# Altium footprint library Gelnar.PcbLib: 295 footprints (part 15 of 19)
Each footprint in its own frame and in the unit in brackets; x right, y up, seen from the top. Pads: shape width x height; smd on the part's side, far side on the other; paste and mask are expansions set on the pad; w line width, h text height; cw(c..) or ccw(c..) is an arc to the next point about the centre after c.
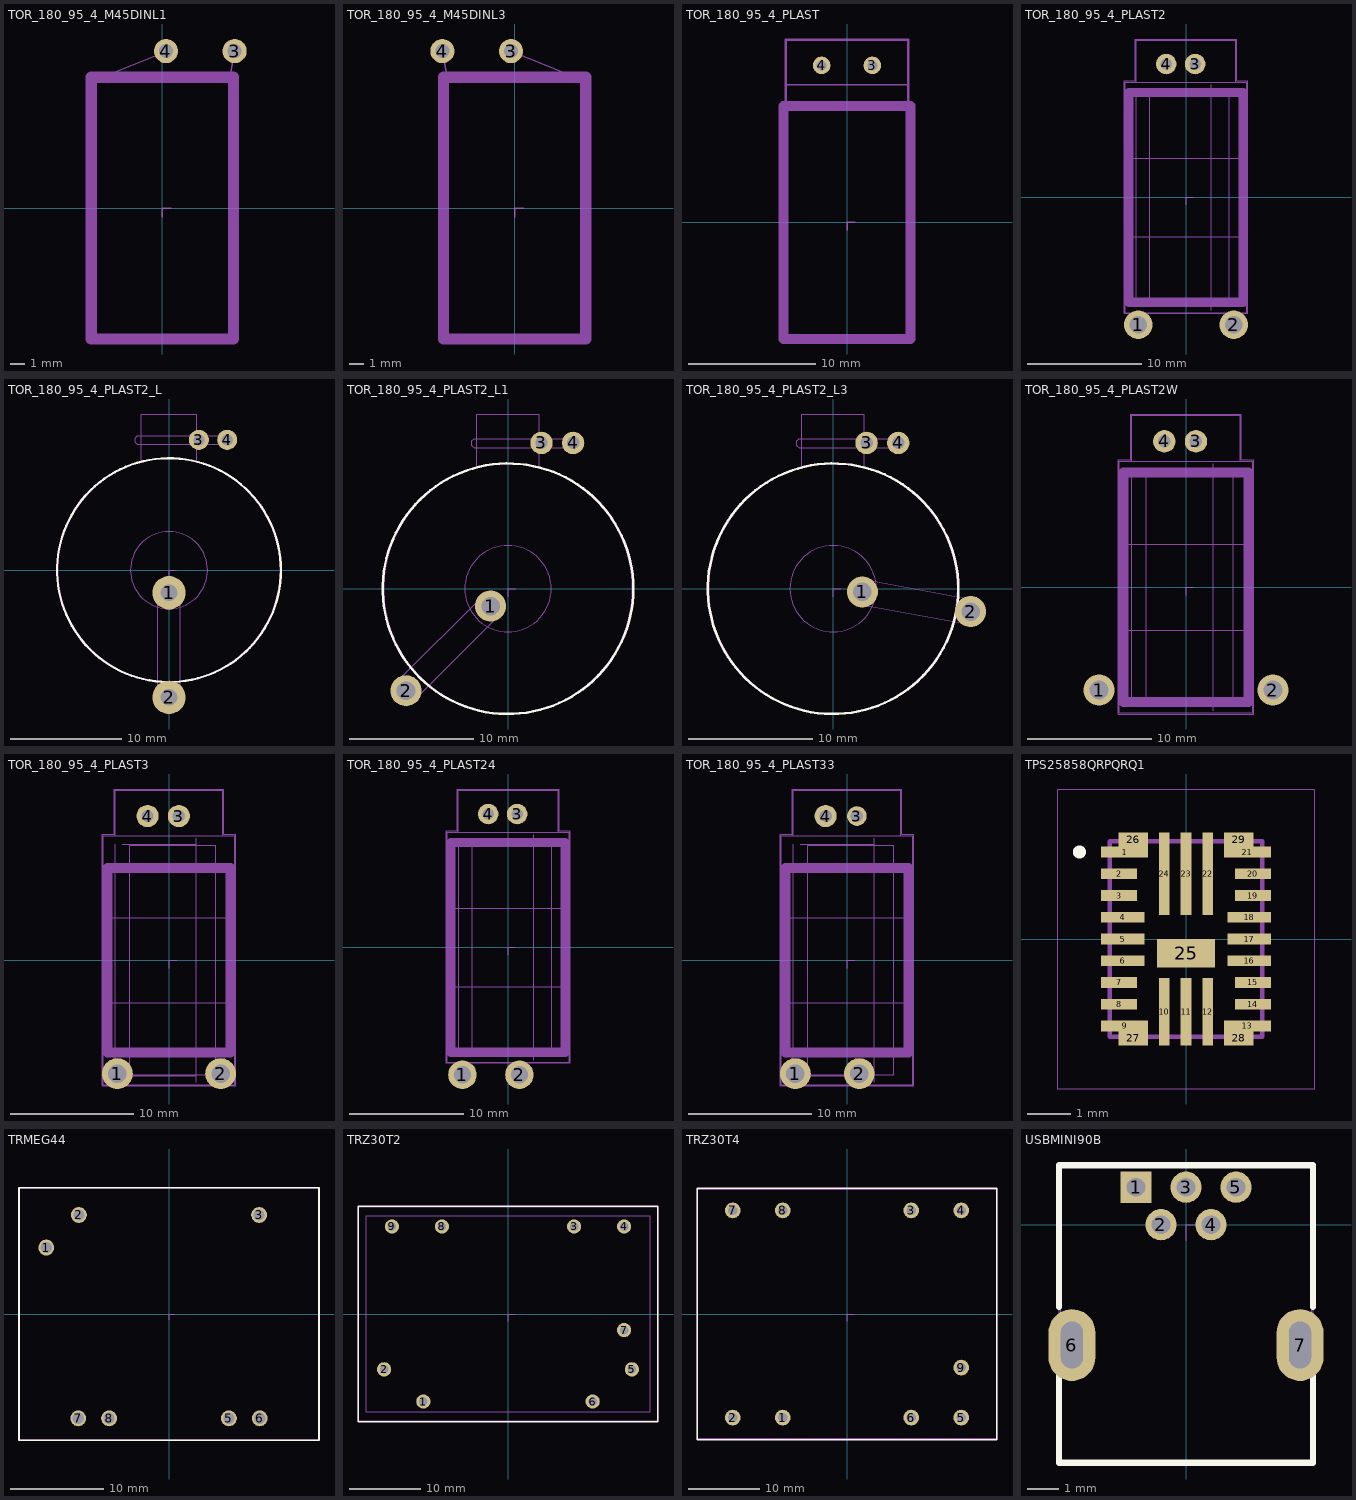
[diagram p14: the footprints below, top view; thin cyan lines are the x and y axes]

## TOR_180_95_4_M45DINL1 [mm]
pads (2):
  round 1.7 hole 1 mask+0.1: 3(5.08,11.049) 4(0.254,11.049)
Mechanical 15:
  circle w0.1: c0.254,11.049 r0.5
  circle w0.1: c5.08,11.049 r0.5
  lines w0.1: -4.699,9.017 -0.127,10.858 ; 4.699,9.017 5.016,10.668 ; -4.8,-9 4.8,-9 4.8,9 -4.8,9 -4.8,-9
Mechanical 16:
  circle w0.1: c0.254,11.049 r0.5
  circle w0.1: c5.08,11.049 r0.5
  lines w0.8: -5,-9.2 -5,9.2 5,9.2 5,-9.2 -5,-9.2
Mechanical 19:
  lines w0.1: 0,-0.635 0,0 0.635,0
Mechanical 20:
  lines w0.1: -4.889,-9.08 4.889,-9.08 4.889,9.08 -4.889,9.08 -4.889,-9.08

## TOR_180_95_4_M45DINL3 [mm]
pads (2):
  round 1.7 hole 1 mask+0.1: 3(-0.254,11.049) 4(-5.08,11.049)
Mechanical 15:
  circle w0.1: c-5.08,11.049 r0.5
  circle w0.1: c-0.254,11.049 r0.5
  lines w0.1: -5.08,11.049 -4.699,9.017 ; -0.254,11.049 4.699,9.017 ; -4.8,-9 4.8,-9 4.8,9 -4.8,9 -4.8,-9
Mechanical 16:
  circle w0.1: c-5.08,11.049 r0.5
  circle w0.1: c-0.254,11.049 r0.5
  lines w0.8: -5,-9.2 -5,9.2 5,9.2 5,-9.2 -5,-9.2
Mechanical 19:
  lines w0.1: 0,-0.635 0,0 0.635,0
Mechanical 20:
  lines w0.1: -4.889,-9.08 4.889,-9.08 4.889,9.08 -4.889,9.08 -4.889,-9.08

## TOR_180_95_4_PLAST [mm]
pads (2):
  round 1.4 hole 0.8 mask+0.05: 3(2,12.4) 4(-2,12.4)
Mechanical 15:
  circle w0.1: c-2,12.4 r0.5
  circle w0.1: c2,12.4 r0.5
  lines w0.1: -4.826,10.858 4.826,10.858 ; -4.8,9 4.8,9 ; -4.8,-9 4.8,-9 4.8,14.4 -4.8,14.4 -4.8,-9
Mechanical 16:
  circle w0.1: c-2,12.4 r0.5
  circle w0.1: c2,12.4 r0.5
  lines w0.8: -5,-9.2 -5,9.2 5,9.2 5,-9.2 -5,-9.2
Mechanical 19:
  lines w0.1: 0,-0.635 0,0 0.635,0
Mechanical 20:
  lines w0.1: -4.889,-9.08 4.889,-9.08 4.889,14.48 -4.889,14.48 -4.889,-9.08

## TOR_180_95_4_PLAST2 [mm]
pads (4):
  round 2.5 hole 1.5 mask+0.05: 1(-4.191,-11.176) 2(4.191,-11.176)
  round 1.8 hole 1 mask+0.05: 3(0.801,11.709) 4(-1.739,11.709)
Mechanical 15:
  circle w0.1: c-1.739,11.709 r0.5
  circle w0.1: c0.801,11.709 r0.5
  circle w0.1: c-4.191,-11.176 r1
  circle w0.1: c4.191,-11.176 r1
  lines w0.1: -4.8,-3.45 4.8,-3.45 ; -4.8,3.45 4.8,3.45 ; -4.35,-9.4 -4.35,9.4 ; -3.8,-9.4 2.2,-9.4 ; -3.8,9.4 2.2,9.4 ; -3.2,9.3 -3.2,-9.3 3.8,-9.3 3.8,9.3 ; -3.2,9.35 3.8,9.35 ; 2.2,-9.9 2.2,9.9 ; -5.35,10.1 -5.35,-10.1 5.35,-10.1 5.35,10.1 ; -5.35,10.1 -4.35,10.1 -4.35,13.8 4.35,13.8 4.35,10.1 5.35,10.1 ; -5.35,10.1 5.35,10.1
Mechanical 16:
  circle w0.1: c-1.739,11.709 r0.5
  circle w0.1: c0.801,11.709 r0.5
  lines w0.8: -5,-9.2 -5,9.2 5,9.2 5,-9.2 -5,-9.2
Mechanical 19:
  lines w0.1: 0,-0.635 0,0 0.635,0
Mechanical 20:
  lines w0.1: -5.439,-10.181 5.439,-10.181 5.439,10.223 4.445,10.223 4.445,13.906 -4.445,13.906 -4.445,10.223 -5.439,10.223 -5.439,-10.181
3D body "Kryt toroidu update Maplast_ poeledni verze2025.stp": height 17.76, standoff -6.46, extent -5.325,-11.768 5.325,15.707

## TOR_180_95_4_PLAST2_L [mm]
height 13
pads (4):
  round 3 hole 1.5 mask+0.05: 1(0,-2.032) 2(0,-11.43)
  round 1.8 hole 1 mask+0.05: 3(2.69,11.709) 4(5.23,11.709)
Top Overlay:
  circle w0.2: c0,0 r10.064
Mechanical 15:
  circle w0.1: c0,0 r10
  circle w0.1: c0,0 r3.47
  circle w0.1: c0,-11.43 r1
  circle w0.1: c0,-2.032 r1
  circle w0.1: c2.69,11.709 r0.5
  circle w0.1: c5.23,11.709 r0.5
  lines w0.1: -2.5,9.7 -2.5,14.034 2.5,14.034 2.5,9.7 ; -1.016,-11.493 -1.016,-2.095 ; 1.016,-11.43 1.016,-1.968 ; -3.048,11.493 -2.857,11.303 2.667,11.303 ccw(c2.654,11.684) 2.667,12.065 -2.857,12.065 -3.048,11.874 -3.048,11.493 ; 2.476,11.303 2.476,12.065 5.271,12.065 cw(c5.226,11.684) 5.27,11.303 2.476,11.303
Mechanical 16:
  circle w0.1: c2.69,11.709 r0.5
  circle w0.1: c5.23,11.709 r0.5
Mechanical 19:
  lines w0.1: 0,-0.635 0,0 0.635,0
Mechanical 20:
  circle w0.1: c0,0 r10.064
3D body "Kryt toroidu update Maplast_ poeledni verze2025.stp": height 10.65, standoff 0, extent -10.089,-10.103 10.211,14.217

## TOR_180_95_4_PLAST2_L1 [mm]
height 13
pads (4):
  round 2.5 hole 1.5 mask+0.05: 1(-1.397,-1.397) 2(-8.191,-8.191)
  round 1.8 hole 1 mask+0.05: 3(2.69,11.709) 4(5.23,11.709)
Top Overlay:
  circle w0.2: c0,0 r10.064
Mechanical 15:
  circle w0.1: c0,0 r10
  circle w0.1: c0,0 r3.47
  circle w0.1: c-8.191,-8.191 r1
  circle w0.1: c-1.397,-1.397 r1
  circle w0.1: c2.69,11.709 r0.5
  circle w0.1: c5.23,11.709 r0.5
  lines w0.1: -8.846,-7.409 -2.2,-0.763 ; -7.364,-8.801 -0.674,-2.11 ; -2.5,9.75 -2.5,14.034 2.5,14.034 2.5,9.75 ; -2.921,11.493 -2.73,11.303 2.794,11.303 ccw(c2.781,11.684) 2.794,12.065 -2.73,12.065 -2.921,11.874 -2.921,11.493 ; 2.603,11.303 2.603,12.065 5.397,12.065 cw(c5.353,11.684) 5.397,11.303 2.603,11.303
Mechanical 16:
  circle w0.1: c2.69,11.709 r0.5
  circle w0.1: c5.23,11.709 r0.5
Mechanical 19:
  lines w0.1: 0,-0.635 0,0 0.635,0
Mechanical 20:
  circle w0.1: c0,0 r10.064
3D body "Kryt toroidu update Maplast_ poeledni verze2025.stp": height 10.65, standoff 0, extent -10.128,-10.168 10.171,14.152

## TOR_180_95_4_PLAST2_L3 [mm]
height 13
pads (4):
  round 2.5 hole 1.5 mask+0.05: 1(2.349,-0.254) 2(11.049,-1.841)
  round 1.8 hole 1 mask+0.05: 3(2.69,11.709) 4(5.23,11.709)
Top Overlay:
  circle w0.2: c0,0 r10.064
Mechanical 15:
  circle w0.1: c0,0 r10
  circle w0.1: c0,0 r3.47
  circle w0.1: c11.049,-1.841 r1
  circle w0.1: c2.349,-0.254 r1
  circle w0.1: c2.69,11.709 r0.5
  circle w0.1: c5.23,11.709 r0.5
  lines w0.1: -2.5,9.75 -2.5,14.034 2.5,14.034 2.5,9.75 ; 2.222,-1.27 2.286,-1.27 10.922,-2.857 ; 2.476,0.762 11.239,-0.889 ; -2.921,11.493 -2.73,11.303 2.794,11.303 ccw(c2.781,11.684) 2.794,12.065 -2.73,12.065 -2.921,11.874 -2.921,11.493 ; 2.603,11.303 2.603,12.065 5.397,12.065 cw(c5.353,11.684) 5.397,11.303 2.603,11.303
Mechanical 16:
  circle w0.1: c2.69,11.709 r0.5
  circle w0.1: c5.23,11.709 r0.5
Mechanical 19:
  lines w0.1: 0,-0.635 0,0 0.635,0
Mechanical 20:
  circle w0.1: c0,0 r10.064
3D body "Kryt toroidu update Maplast_ poeledni verze2025.stp": height 10.65, standoff 0, extent -10.119,-10.173 10.18,14.147

## TOR_180_95_4_PLAST2W [mm]
pads (4):
  round 2.5 hole 1.5 mask+0.05: 1(-6.985,-8.255) 2(6.985,-8.255)
  round 1.8 hole 1 mask+0.05: 3(0.801,11.709) 4(-1.739,11.709)
Mechanical 15:
  circle w0.1: c6.985,-8.255 r1
  circle w0.1: c-6.985,-8.255 r1
  circle w0.1: c0.801,11.709 r0.5
  circle w0.1: c-1.739,11.709 r0.5
  lines w0.1: -4.8,-3.45 4.8,-3.45 ; -4.8,3.45 4.8,3.45 ; -4.35,-9.4 -4.35,9.4 ; -3.8,-9.4 2.2,-9.4 ; -3.8,9.4 2.2,9.4 ; -3.2,9.3 -3.2,-9.3 3.8,-9.3 3.8,9.3 ; -3.2,9.35 3.8,9.35 ; 2.2,-9.9 2.2,9.9 ; -5.35,10.1 5.35,10.1 ; -5.35,10.1 -4.35,10.1 -4.35,13.8 4.35,13.8 4.35,10.1 5.35,10.1 ; -5.35,10.1 -5.35,-10.1 5.35,-10.1 5.35,10.1
Mechanical 16:
  circle w0.1: c0.801,11.709 r0.5
  circle w0.1: c-1.739,11.709 r0.5
  lines w0.8: -5,-9.2 5,-9.2 5,9.2 -5,9.2 -5,-9.2
Mechanical 19:
  lines w0.1: 0,-0.635 0,0 0.635,0
Mechanical 20:
  lines w0.1: -5.439,-10.181 -5.439,10.223 -4.445,10.223 -4.445,13.906 4.445,13.906 4.445,10.223 5.439,10.223 5.439,-10.181 -5.439,-10.181
3D body "Kryt toroidu update Maplast_ poeledni verze2025.stp": height 17.76, standoff -6.46, extent -5.325,-11.768 5.325,15.707

## TOR_180_95_4_PLAST3 [mm]
pads (4):
  round 2.5 hole 1.5 mask+0.05: 1(-4.191,-9.207) 2(4.191,-9.207)
  round 1.8 hole 1 mask+0.05: 3(0.801,11.709) 4(-1.739,11.709)
Mechanical 15:
  circle w0.1: c4.191,-9.207 r1
  circle w0.1: c-4.191,-9.207 r1
  circle w0.1: c0.801,11.709 r0.5
  circle w0.1: c-1.739,11.709 r0.5
  lines w0.1: -4.8,-3.45 4.8,-3.45 ; -4.8,3.45 4.8,3.45 ; -4.35,-9.4 -4.35,9.4 ; -3.8,-9.4 2.2,-9.4 ; -3.8,9.4 2.2,9.4 ; -3.2,9.3 -3.2,-9.3 3.8,-9.3 3.8,9.3 ; -3.2,9.35 3.8,9.35 ; 2.2,-9.9 2.2,9.9 ; -5.35,10.1 5.35,10.1 ; -5.35,10.1 -4.35,10.1 -4.35,13.8 4.35,13.8 4.35,10.1 5.35,10.1 ; -5.35,10.1 -5.35,-10.1 5.35,-10.1 5.35,10.1
Mechanical 16:
  circle w0.1: c0.801,11.709 r0.5
  circle w0.1: c-1.739,11.709 r0.5
  lines w0.8: -5,-7.5 5,-7.5 5,7.5 -5,7.5 -5,-7.5
Mechanical 19:
  lines w0.1: 0,-0.635 0,0 0.635,0
Mechanical 20:
  lines w0.1: -5.439,-10.181 -5.439,10.223 -4.445,10.223 -4.445,13.906 4.445,13.906 4.445,10.223 5.439,10.223 5.439,-10.181 -5.439,-10.181
3D body "Kryt toroidu update Maplast_ poeledni verze2025.stp": height 17.76, standoff -6.46, extent -5.325,-11.768 5.325,15.707

## TOR_180_95_4_PLAST24 [mm]
pads (4):
  round 2.5 hole 1.5 mask+0.05: 1(-4,-11.176) 2(1,-11.176)
  round 1.8 hole 1 mask+0.05: 3(0.801,11.709) 4(-1.739,11.709)
Mechanical 15:
  circle w0.1: c-1.739,11.709 r0.5
  circle w0.1: c0.801,11.709 r0.5
  circle w0.1: c-4,-11.176 r1
  circle w0.1: c1,-11.176 r1
  lines w0.1: -4.8,-3.45 4.8,-3.45 ; -4.8,3.45 4.8,3.45 ; -4.35,-9.4 -4.35,9.4 ; -3.8,-9.4 2.2,-9.4 ; -3.8,9.4 2.2,9.4 ; -3.2,9.3 -3.2,-9.3 3.8,-9.3 3.8,9.3 ; -3.2,9.35 3.8,9.35 ; 2.2,-9.9 2.2,9.9 ; -5.35,10.1 -5.35,-10.1 5.35,-10.1 5.35,10.1 ; -5.35,10.1 -4.35,10.1 -4.35,13.8 4.35,13.8 4.35,10.1 5.35,10.1 ; -5.35,10.1 5.35,10.1
Mechanical 16:
  circle w0.1: c-1.739,11.709 r0.5
  circle w0.1: c0.801,11.709 r0.5
  lines w0.8: -5,-9.2 -5,9.2 5,9.2 5,-9.2 -5,-9.2
Multi-Layer:
  text "Value" at -1.235,-0.869 h0.75
Mechanical 19:
  lines w0.1: 0,-0.635 0,0 0.635,0
Mechanical 20:
  lines w0.1: -5.439,-10.181 5.439,-10.181 5.439,10.223 4.445,10.223 4.445,13.906 -4.445,13.906 -4.445,10.223 -5.439,10.223 -5.439,-10.181

## TOR_180_95_4_PLAST33 [mm]
pads (4):
  round 2.5 hole 1.5 mask+0.05: 1(-4.191,-9.207) 2(1,-9.207)
  round 1.6 / inner round 1.8 / far side round 1.8 hole 1 mask+0.05: 3(0.801,11.709)
  round 1.8 hole 1 mask+0.05: 4(-1.739,11.709)
Mechanical 15:
  circle w0.1: c1,-9.207 r1
  circle w0.1: c-4.191,-9.207 r1
  circle w0.1: c0.801,11.709 r0.5
  circle w0.1: c-1.739,11.709 r0.5
  lines w0.1: -4.8,-3.45 4.8,-3.45 ; -4.8,3.45 4.8,3.45 ; -4.35,-9.4 -4.35,9.4 ; -3.8,-9.4 2.2,-9.4 ; -3.8,9.4 2.2,9.4 ; -3.2,9.3 -3.2,-9.3 3.8,-9.3 3.8,9.3 ; -3.2,9.35 3.8,9.35 ; 2.2,-9.9 2.2,9.9 ; -5.35,10.1 5.35,10.1 ; -5.35,10.1 -4.35,10.1 -4.35,13.8 4.35,13.8 4.35,10.1 5.35,10.1 ; -5.35,10.1 -5.35,-10.1 5.35,-10.1 5.35,10.1
Mechanical 16:
  circle w0.1: c0.801,11.709 r0.5
  circle w0.1: c-1.739,11.709 r0.5
  lines w0.8: -5,-7.5 5,-7.5 5,7.5 -5,7.5 -5,-7.5
Mechanical 19:
  lines w0.1: 0,-0.635 0,0 0.635,0
Mechanical 20:
  lines w0.1: -5.439,-10.181 -5.439,10.223 -4.445,10.223 -4.445,13.906 4.445,13.906 4.445,10.223 5.439,10.223 5.439,-10.181 -5.439,-10.181
3D body "Kryt toroidu update Maplast_ poeledni verze2025.stp": height 17.76, standoff -6.46, extent -5.325,-11.768 5.325,15.707

## TPS25858QRPQRQ1 [mm]
pads (29):
  rect 1.075x0.25 smd mask+0.05: 1(-1.412,2) 9(-1.412,-2) 13(1.412,-2) 21(1.412,2)
  rect 0.825x0.25 smd mask+0.05: 2(-1.537,1.5) 3(-1.537,1) 7(-1.537,-1) 8(-1.537,-1.5) 14(1.537,-1.5) 15(1.537,-1) 19(1.537,1) 20(1.537,1.5)
  rect 1x0.25 smd mask+0.05: 4(-1.45,0.5) 5(-1.45,0) 6(-1.45,-0.5) 16(1.45,-0.5) 17(1.45,0) 18(1.45,0.5)
  rect 0.25x1.55 smd mask+0.05: 10(-0.5,-1.675) 11(0,-1.675) 12(0.5,-1.675)
  rect 0.25x1.9 smd mask+0.05: 22(0.5,1.5) 23(0,1.5) 24(-0.5,1.5)
  rect 1.325x0.65 smd mask+0.05: 25(0,-0.325)
  rect 0.675x0.325 smd mask+0.05: 26(-1.213,2.287) 27(-1.213,-2.287) 28(1.213,-2.287) 29(1.213,2.287)
Top Overlay:
  lines w0.2: -2.5,2 -2.5,2 ; -2.5,2 ccw(c-2.45,2) -2.4,2 ; -2.5,2 cw(c-2.45,2) -2.4,2 ; -2.5,2 -2.5,2 ; -2.5,2 ccw(c-2.45,2) -2.4,2 ; -2.4,2 -2.4,2
Mechanical 15:
  lines w0.1: -1.75,-2.25 1.75,-2.25 1.75,2.25 -1.75,2.25 -1.75,-2.25
Mechanical 20:
  lines w0.01: -2.95,-3.45 2.95,-3.45 2.95,3.45 -2.95,3.45 -2.95,-3.45

## TRMEG44 [mm]
pads (7):
  round 1.7 hole 1.2 mask+0.05: 1(-13.144,7.112) 2(-9.652,10.604) 3(9.652,10.604) 5(6.413,-11.176) 6(9.716,-11.176) 7(-9.716,-11.176) 8(-6.413,-11.176)
Top Overlay:
  lines w0.2: -16.066,-13.525 16.066,-13.525 16.066,13.525 -16.066,13.525 -16.066,-13.525
Mechanical 15:
  lines w0.1: -16,-13.5 16,-13.5 16,13.5 -16,13.5 -16,-13.5
Mechanical 19:
  lines w0.1: 0,-0.635 0,0 0.635,0
Mechanical 20:
  lines w0.1: -16.066,-13.525 16.066,-13.525 16.066,13.525 -16.066,13.525 -16.066,-13.525

## TRZ30T2 [mm]
pads (9):
  round 2 hole 1.2 mask+0.05: 1(-11.85,-12.25) 2(-17.35,-7.75) 3(9.25,12.25) 4(16.25,12.25) 5(17.35,-7.75) 6(11.85,-12.25) 7(16.25,-2.25) 8(-9.25,12.25) 9(-16.25,12.25)
Top Overlay:
  lines w0.2: -21,-15.1 21,-15.1 21,15.1 -21,15.1 -21,-15.1
Mechanical 15:
  circle w0.1: c-16,12 r0.5
  circle w0.1: c-17.35,-7.8 r0.5
  circle w0.1: c16,12 r0.5
  circle w0.1: c16.3,-2.25 r0.5
  circle w0.1: c17.35,-7.8 r0.5
  circle w0.1: c11.85,-12.3 r0.5
  circle w0.1: c-11.85,-12.25 r0.5
  circle w0.1: c-9,12 r0.5
  circle w0.1: c9,12 r0.5
  lines w0.1: -20.9,-15 20.9,-15 20.9,15 -20.9,15 -20.9,-15
Mechanical 16:
  circle w0.1: c-16,12 r0.5
  circle w0.1: c16,12 r0.5
  circle w0.1: c-17.35,-7.8 r0.5
  circle w0.1: c16.3,-2.25 r0.5
  circle w0.1: c-11.85,-12.25 r0.5
  circle w0.1: c11.85,-12.3 r0.5
  circle w0.1: c17.35,-7.8 r0.5
  circle w0.1: c-9,12 r0.5
  circle w0.1: c9,12 r0.5
Multi-Layer:
  text "Value" at -1.185,-1.925 h0.75
Mechanical 19:
  lines w0.1: 0,-1 0,0 1,0 ; -19.85,-13.75 19.85,-13.75 19.85,13.75 -19.85,13.75 -19.85,-13.75
Mechanical 20:
  lines w0.1: -21,-15.1 21,-15.1 21,15.1 -21,15.1 -21,-15.1

## TRZ30T4 [mm]
pads (9):
  round 2.2 hole 1.3 mask+0.05: 1(-9,-14.5) 2(-16,-14.5) 3(9,14.5) 4(16,14.5) 5(16,-14.5) 6(9,-14.5) 7(-16,14.5) 8(-9,14.5) 9(16,-7.5)
Top Overlay:
  lines w0.2: -21,-17.6 21,-17.6 21,17.6 -21,17.6 -21,-17.6
Mechanical 15:
  circle w0.1: c-16,14.5 r0.5
  circle w0.1: c-16,-14.5 r0.5
  circle w0.1: c16,14.5 r0.5
  circle w0.1: c16,-7.5 r0.5
  circle w0.1: c16,-14.5 r0.5
  circle w0.1: c9,-14.5 r0.5
  circle w0.1: c-9,-14.5 r0.5
  circle w0.1: c-9,14.5 r0.5
  circle w0.1: c9,14.5 r0.5
  lines w0.1: -20.9,-17.5 20.9,-17.5 20.9,17.5 -20.9,17.5 -20.9,-17.5
  text "7" at -16.25,16.05 h0.75
  text "2" at -16.35,-17 h0.75
  text "1" at -9.2,-17.15 h0.75
  text "6" at 8.75,-17.05 h0.75
  text "5" at 15.7,-16.95 h0.75
  text "9" at 18.05,-7.95 h0.75
  text "4" at 15.75,16 h0.75
  text "3" at 8.7,16.05 h0.75
  text "8" at -9.15,16.05 h0.75
Mechanical 16:
  circle w0.1: c-16,14.5 r0.5
  circle w0.1: c16,14.5 r0.5
  circle w0.1: c-16,-14.5 r0.5
  circle w0.1: c16,-7.5 r0.5
  circle w0.1: c-9,-14.5 r0.5
  circle w0.1: c9,-14.5 r0.5
  circle w0.1: c16,-14.5 r0.5
  circle w0.1: c-9,14.5 r0.5
  circle w0.1: c9,14.5 r0.5
Multi-Layer:
  text "Value" at -1.235,-0.869 h0.75
Mechanical 19:
  lines w0.1: 0,-1 0,0 1,0
Mechanical 20:
  lines w0.1: -21,-17.6 21,-17.6 21,17.6 -21,17.6 -21,-17.6

## USBMINI90B [mm]
height 9.5
pads (7):
  rect 1x1 hole 0.6 mask+0.05: 1(-1.6,1.2)
  round 1 hole 0.6 mask+0.05: 2(-0.8,0) 3(0,1.2) 4(0.8,0) 5(1.6,1.2)
  oval 1.5x2.3 hole 0.7 slot 1.5 at 90 deg mask+0.05: 6(-3.65,-3.85) 7(3.65,-3.85)
Top Overlay:
  lines w0.2: -4.064,-4.826 -4.064,-7.62 4.064,-7.62 4.064,-4.826 ; -4.064,-2.635 -4.064,1.905 4.064,1.905 4.064,-2.635
Mechanical 15:
  lines w0.01: -4,-7.556 4,-7.556 4,1.841 -4,1.841 -4,-7.556
Multi-Layer:
  text "Value" at -1.172,-1.618 h0.75
Mechanical 19:
  lines w0.01: 0,-0.508 0,0 0.508,0
Mechanical 20:
  lines w0.01: -4.064,-7.62 4.064,-7.62 4.064,1.905 -4.064,1.905 -4.064,-7.62